# Altium footprint library PCB.PcbLib: 224 footprints (part 3 of 14)
Each footprint in its own frame and in the unit in brackets; x right, y up, seen from the top. Pads: shape width x height; smd on the part's side, far side on the other; paste and mask are expansions set on the pad; w line width, h text height; cw(c..) or ccw(c..) is an arc to the next point about the centre after c.
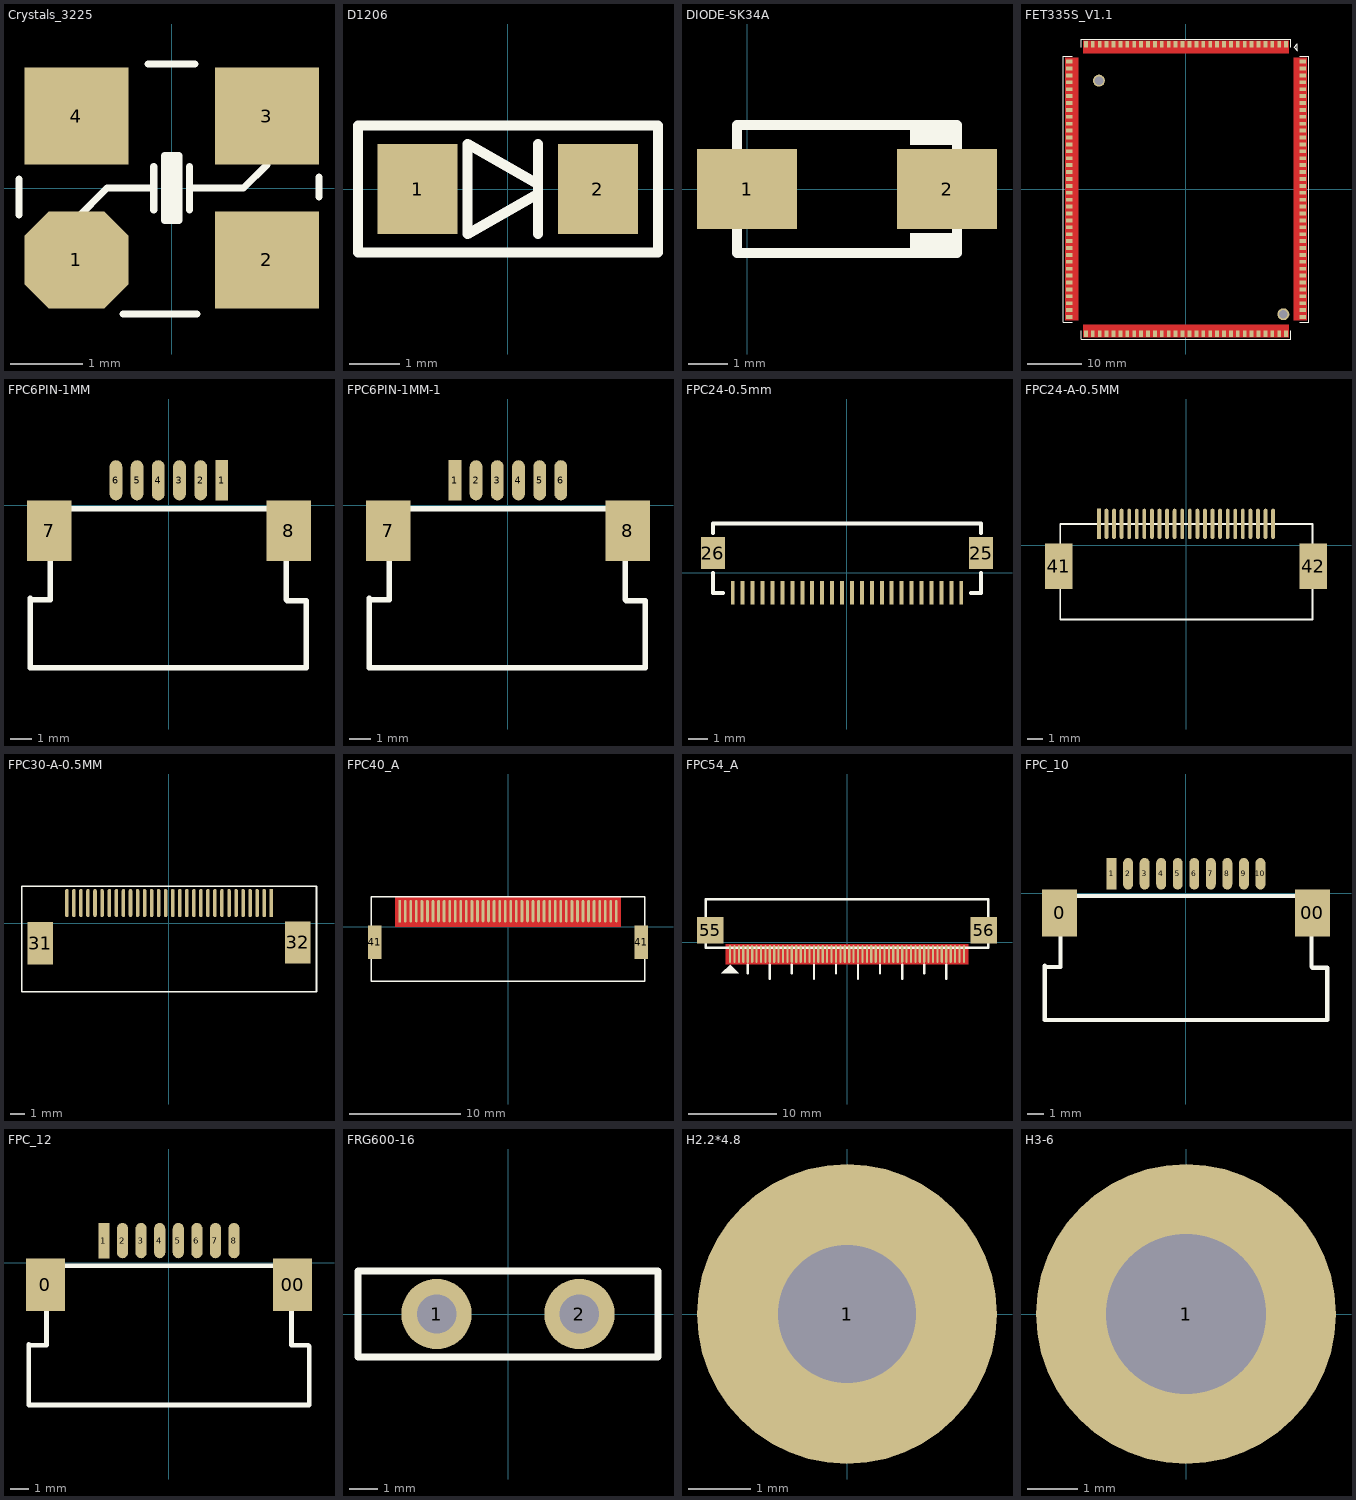
[diagram p2: the footprints below, top view; thin cyan lines are the x and y axes]

## Crystals_3225 [mm]
pads (4):
  oct 1.45x1.35 smd: 1(-1.325,-1)
  rect 1.45x1.35 smd: 2(1.325,-1) 3(1.325,1) 4(-1.325,1)
Top Overlay:
  rectangle: -0.1,-0.45 0.1,0.45
  lines w0.1: -2.125,-0.375 -2.125,0.125 ; -1.325,-0.425 -0.9,0 -0.25,0 ; -0.675,-1.75 0.35,-1.75 ; -0.325,1.725 0.325,1.725 ; -0.25,-0.3 -0.25,0.3 ; 0.25,-0.3 0.25,0.3 ; 0.25,0 1,0 1.325,0.325 ; 2.05,-0.125 2.05,0.15 ; -0.1,-0.45 -0.1,0.45 0.1,0.45 0.1,-0.45 -0.1,-0.45

## D1206 [mm]
height 1.75
pads (2):
  rect 1.6x1.8 smd: 1(-1.8,0) 2(1.8,0)
Top Overlay:
  lines w0.2: 0.6,-0.9 0.6,0.9 ; 0.6,-0.1 -0.8,-0.9 ; 0.6,0.1 -0.8,0.9 ; -0.8,-0.9 -0.8,0.9 ; -0.8,-0.9 -0.8,-0.9 ; -0.8,0.9 -0.8,0.9 ; -2.991,-1.27 3,-1.27 3,1.27 -2.991,1.27 -2.991,-1.27

## DIODE-SK34A [mil]
pads (2):
  rect 100x80 smd: 1(0,0) 2(200,0)
Top Overlay:
  rectangle: 163,-60 210,-44
  rectangle: 163,44 210,60
  lines w10: -10,-63.94 -10,63.94 210,63.94 210,-63.94 -10,-63.94

## FET335S_V1.1 [mm]
pads (138):
  rect 0.7x1.2 smd: 1(18.415,26.6) 2(17.145,26.6) 3(15.875,26.6) 4(14.605,26.6) 5(13.335,26.6) 6(12.065,26.6) 7(10.795,26.6) 8(9.525,26.6) 9(8.255,26.6) 10(6.985,26.6) 11(5.715,26.6) 12(4.445,26.6) 13(3.175,26.6) 14(1.905,26.6) 15(0.635,26.6) 16(-0.635,26.6) 17(-1.905,26.6) 18(-3.175,26.6) 19(-4.445,26.6) 20(-5.715,26.6) 21(-6.985,26.6) 22(-8.255,26.6) 23(-9.525,26.6) 24(-10.795,26.6) 25(-12.065,26.6) 26(-13.335,26.6) 27(-14.605,26.6) 28(-15.875,26.6) 29(-17.145,26.6) 30(-18.415,26.6) 69(-18.415,-26.6) 70(-17.145,-26.6) 71(-15.875,-26.6) 72(-14.605,-26.6) 73(-13.335,-26.6) 74(-12.065,-26.6) 75(-10.795,-26.6) 76(-9.525,-26.6) 77(-8.255,-26.6) 78(-6.985,-26.6) 79(-5.715,-26.6) 80(-4.445,-26.6) 81(-3.175,-26.6) 82(-1.905,-26.6) 83(-0.635,-26.6) 84(0.635,-26.6) 85(1.905,-26.6) 86(3.175,-26.6) 87(4.445,-26.6) 88(5.715,-26.6) 89(6.985,-26.6) 90(8.255,-26.6) 91(9.525,-26.6) 92(10.795,-26.6) 93(12.065,-26.6) 94(13.335,-26.6) 95(14.605,-26.6) 96(15.875,-26.6) 97(17.145,-26.6) 98(18.415,-26.6)
  rect 1.2x0.7 smd: 31(-21.5,23.44) 32(-21.5,22.17) 33(-21.5,20.9) 34(-21.5,19.63) 35(-21.5,18.36) 36(-21.5,17.09) 37(-21.5,15.82) 38(-21.5,14.55) 39(-21.5,13.28) 40(-21.5,12.01) 41(-21.5,10.74) 42(-21.5,9.47) 43(-21.5,8.2) 44(-21.5,6.93) 45(-21.5,5.66) 46(-21.5,4.39) 47(-21.5,3.12) 48(-21.5,1.85) 49(-21.5,0.58) 50(-21.5,-0.69) 51(-21.5,-1.96) 52(-21.5,-3.23) 53(-21.5,-4.5) 54(-21.5,-5.77) 55(-21.5,-7.04) 56(-21.5,-8.31) 57(-21.5,-9.58) 58(-21.5,-10.85) 59(-21.5,-12.12) 60(-21.5,-13.39) 61(-21.5,-14.66) 62(-21.5,-15.93) 63(-21.5,-17.2) 64(-21.5,-18.47) 65(-21.5,-19.74) 66(-21.5,-21.01) 67(-21.5,-22.28) 68(-21.5,-23.55) 99(21.5,-23.55) 100(21.5,-22.28) 101(21.5,-21.01) 102(21.5,-19.74) 103(21.5,-18.47) 104(21.5,-17.2) 105(21.5,-15.93) 106(21.5,-14.66) 107(21.5,-13.39) 108(21.5,-12.12) 109(21.5,-10.85) 110(21.5,-9.58) 111(21.5,-8.31) 112(21.5,-7.04) 113(21.5,-5.77) 114(21.5,-4.5) 115(21.5,-3.23) 116(21.5,-1.96) 117(21.5,-0.69) 118(21.5,0.58) 119(21.5,1.85) 120(21.5,3.12) 121(21.5,4.39) 122(21.5,5.66) 123(21.5,6.93) 124(21.5,8.2) 125(21.5,9.47) 126(21.5,10.74) 127(21.5,12.01) 128(21.5,13.28) 129(21.5,14.55) 130(21.5,15.82) 131(21.5,17.09) 132(21.5,18.36) 133(21.5,19.63) 134(21.5,20.9) 135(21.5,22.17) 136(21.5,23.44)
  round 2.2 hole 1.6: 137(-16.015,19.94) 137(17.915,-23.05)
Top Layer:
  pour cut-out: -18.923,27.305 -18.923,25.019 18.923,25.019 18.923,27.305
  pour cut-out: -18.923,-25.019 -18.923,-27.305 18.923,-27.305 18.923,-25.019
  pour cut-out: 22.225,24.13 19.812,24.13 19.812,-24.13 22.225,-24.13
  pour cut-out: -22.225,24.13 -19.812,24.13 -19.812,-24.13 -22.225,-24.13
Top Overlay:
  lines w0.2: -20.933,-24.5 -22.6,-24.5 -22.6,24.4 -20.933,24.4 ; -19.3,-26.071 -19.3,-27.6 19.3,-27.6 19.3,-26.071 ; -19.3,26.071 -19.3,27.6 19.3,27.6 19.3,26.071 ; 19.9,26.071 20.5,25.471 20.5,26.7 19.9,26.1 ; 20.933,-24.5 22.6,-24.5 22.6,24.4 20.933,24.4

## FPC6PIN-1MM [mm]
pads (8):
  rect 0.6x1.9 smd: 1(2.494,1.188)
  oval 0.6x1.9 smd: 2(1.494,1.188) 3(0.494,1.188) 4(-0.506,1.188) 5(-1.506,1.188) 6(-2.506,1.188)
  rect 2.1x2.85 smd: 7(-5.656,-1.187) 8(5.656,-1.187)
Top Overlay:
  lines w0.254: -6.556,-7.662 -6.556,-4.386 -6.495,-4.447 -5.606,-4.447 -5.606,-0.162 5.53,-0.162 5.53,-4.439 5.591,-4.5 6.48,-4.5 6.48,-7.662 -6.556,-7.662

## FPC6PIN-1MM-1 [mm]
pads (8):
  rect 0.6x1.9 smd: 1(-2.506,1.188)
  oval 0.6x1.9 smd: 2(-1.506,1.188) 3(-0.506,1.188) 4(0.494,1.188) 5(1.494,1.188) 6(2.494,1.188)
  rect 2.1x2.85 smd: 7(-5.656,-1.187) 8(5.656,-1.187)
Top Overlay:
  lines w0.254: -6.556,-7.662 -6.556,-4.386 -6.495,-4.447 -5.606,-4.447 -5.606,-0.162 5.53,-0.162 5.53,-4.439 5.591,-4.5 6.48,-4.5 6.48,-7.662 -6.556,-7.662

## FPC24-0.5mm [mm]
pads (26):
  rect 0.2x1.2 smd: 1(-5.75,-1) 2(-5.25,-1) 3(-4.75,-1) 4(-4.25,-1) 5(-3.75,-1) 6(-3.25,-1) 7(-2.75,-1) 8(-2.25,-1) 9(-1.75,-1) 10(-1.25,-1) 11(-0.75,-1) 12(-0.25,-1) 13(0.25,-1) 14(0.75,-1) 15(1.25,-1) 16(1.75,-1) 17(2.25,-1) 18(2.75,-1) 19(3.25,-1) 20(3.75,-1) 21(4.25,-1) 22(4.75,-1) 23(5.25,-1) 24(5.75,-1)
  rect 1.2x1.6 smd: 25(6.75,1) 26(-6.75,1)
Top Overlay:
  lines w0.2: -6.75,0 -6.75,-1 -6.25,-1 ; -6.75,2 -6.75,2.5 6.75,2.5 6.75,2 ; 6.25,-1 6.75,-1 6.75,0

## FPC24-A-0.5MM [mm]
pads (26):
  rect 0.25x2 smd: 1(-5.75,1.4)
  oval 0.25x2 smd: 2(-5.25,1.4) 3(-4.75,1.4) 4(-4.25,1.4) 5(-3.75,1.4) 6(-3.25,1.4) 7(-2.75,1.4) 8(-2.25,1.4) 9(-1.75,1.4) 10(-1.25,1.4) 11(-0.75,1.4) 12(-0.25,1.4) 13(0.25,1.4) 14(0.75,1.4) 15(1.25,1.4) 16(1.75,1.4) 17(2.25,1.4) 18(2.75,1.4) 19(3.25,1.4) 20(3.75,1.4) 21(4.25,1.4) 22(4.75,1.4) 23(5.25,1.4) 24(5.75,1.4)
  rect 1.8x3 smd: 41(-8.4,-1.4) 42(8.4,-1.4)
Top Overlay:
  lines w0.127: -8.3,-4.9 -8.3,1.4 8.35,1.4 8.35,-4.9 -8.3,-4.9
3D body: height 1.75, standoff 0.25, extent -8.3,-4.9 8.35,1.4

## FPC30-A-0.5MM [mm]
pads (32):
  rect 0.25x2 smd: 1(7.264,1.425)
  oval 0.25x2 smd: 2(6.764,1.425) 3(6.264,1.425) 4(5.764,1.425) 5(5.264,1.425) 6(4.764,1.425) 7(4.264,1.425) 8(3.764,1.425) 9(3.264,1.425) 10(2.764,1.425) 11(2.264,1.425) 12(1.764,1.425) 13(1.264,1.425) 14(0.764,1.425) 15(0.264,1.425) 16(-0.236,1.425) 17(-0.736,1.425) 18(-1.236,1.425) 19(-1.736,1.425) 20(-2.236,1.425) 21(-2.736,1.425) 22(-3.236,1.425) 23(-3.736,1.425) 24(-4.236,1.425) 25(-4.758,1.425) 26(-5.258,1.425) 27(-5.758,1.425) 28(-6.258,1.425) 29(-6.758,1.425) 30(-7.258,1.425)
  rect 1.8x3 smd: 31(-9.158,-1.425) 32(9.158,-1.375)
Top Overlay:
  lines w0.127: -10.465,-4.875 -10.465,2.616 10.49,2.616 10.49,-4.875 -10.465,-4.875

## FPC40_A [mm]
height 0.65
pads (42):
  rect 0.25x2 smd: 1(-9.75,1.4)
  oval 0.25x2 smd: 2(-9.25,1.4) 3(-8.75,1.4) 4(-8.25,1.4) 5(-7.75,1.4) 6(-7.25,1.4) 7(-6.75,1.4) 8(-6.25,1.4) 9(-5.75,1.4) 10(-5.25,1.4) 11(-4.75,1.4) 12(-4.25,1.4) 13(-3.75,1.4) 14(-3.25,1.4) 15(-2.75,1.4) 16(-2.25,1.4) 17(-1.75,1.4) 18(-1.25,1.4) 19(-0.75,1.4) 20(-0.25,1.4) 21(0.25,1.4) 22(0.75,1.4) 23(1.25,1.4) 24(1.75,1.4) 25(2.25,1.4) 26(2.75,1.4) 27(3.25,1.4) 28(3.75,1.4) 29(4.25,1.4) 30(4.75,1.4) 31(5.25,1.4) 32(5.75,1.4) 33(6.25,1.4) 34(6.75,1.4) 35(7.25,1.4) 36(7.75,1.4) 37(8.25,1.4) 38(8.75,1.4) 39(9.25,1.4) 40(9.75,1.4)
  rect 1.2x3 smd: 41(-12,-1.4) 41(12,-1.4)
Top Layer:
  pour cut-out: -10.16,2.692 -10.16,0 10.16,0 10.16,2.692
Top Overlay:
  lines w0.127: -12.3,2.692 -12.3,-4.9 12.3,-4.9 12.3,2.692 ; -12.294,2.692 12.306,2.692

## FPC54_A [mm]
pads (56):
  oval 0.25x2 smd: 1(-13.25,-1.35) 2(-12.75,-1.35) 3(-12.25,-1.35) 4(-11.75,-1.35) 5(-11.25,-1.35) 6(-10.75,-1.35) 7(-10.25,-1.35) 8(-9.75,-1.35) 9(-9.25,-1.35) 10(-8.75,-1.35) 11(-8.25,-1.35) 12(-7.75,-1.35) 13(-7.25,-1.35) 14(-6.75,-1.35) 15(-6.25,-1.35) 16(-5.75,-1.35) 17(-5.25,-1.35) 18(-4.75,-1.35) 19(-4.25,-1.35) 20(-3.75,-1.35) 21(-3.25,-1.35) 22(-2.75,-1.35) 23(-2.25,-1.35) 24(-1.75,-1.35) 25(-1.25,-1.35) 26(-0.75,-1.35) 27(-0.25,-1.35) 28(0.25,-1.35) 29(0.75,-1.35) 30(1.25,-1.35) 31(1.75,-1.35) 32(2.25,-1.35) 33(2.75,-1.35) 34(3.25,-1.35) 35(3.75,-1.35) 36(4.25,-1.35) 37(4.75,-1.35) 38(5.25,-1.35) 39(5.75,-1.35) 40(6.25,-1.35) 41(6.75,-1.35) 42(7.25,-1.35) 43(7.75,-1.35) 44(8.25,-1.35) 45(8.75,-1.35) 46(9.25,-1.35) 47(9.75,-1.35) 48(10.25,-1.35) 49(10.75,-1.35) 50(11.25,-1.35) 51(11.75,-1.35) 52(12.25,-1.35) 53(12.75,-1.35) 54(13.25,-1.35)
  rect 3x3 smd: 55(-15.5,1.35) 56(15.5,1.35)
Top Layer:
  pour cut-out: -13.716,-2.54 -13.716,-0.254 13.716,-0.254 13.716,-2.54
Top Overlay:
  region: -13.259,-2.556 -14.259,-3.556 -12.259,-3.556
  lines w0.25: -11.25,-3.55 -11.25,-2.55 ; -8.75,-4.15 -8.75,-2.55 ; -6.25,-3.55 -6.25,-2.55 ; -3.75,-4.15 -3.75,-2.55 ; -1.25,-3.55 -1.25,-2.55 ; 1.25,-4.15 1.25,-2.55 ; 3.75,-3.55 3.75,-2.55 ; 6.25,-4.15 6.25,-2.55 ; 8.75,-3.55 8.75,-2.55 ; 11.25,-4.15 11.25,-2.55
  lines w0.3: -16,-0.65 16,-0.65 16,4.85 -16,4.85 -16,-0.65
3D body: height 1.75, standoff 0.25, extent -16.002,-1.016 16.002,4.85

## FPC_10 [mm]
pads (12):
  rect 2.1x2.85 smd: 0(-7.65,-1.187) 00(7.65,-1.187)
  rect 0.6x1.9 smd: 1(-4.5,1.188)
  oval 0.6x1.9 smd: 2(-3.5,1.188) 3(-2.5,1.188) 4(-1.5,1.188) 5(-0.5,1.188) 6(0.5,1.188) 7(1.5,1.188) 8(2.5,1.188) 9(3.5,1.188) 10(4.5,1.188)
Top Overlay:
  lines w0.254: -8.55,-7.662 8.55,-7.662 8.55,-4.5 7.661,-4.5 7.6,-4.439 7.6,-0.162 -7.6,-0.162 -7.6,-4.447 -8.489,-4.447 -8.55,-4.386 -8.55,-7.662

## FPC_12 [mm]
pads (10):
  rect 2.1x2.85 smd: 0(-6.65,-1.187) 00(6.65,-1.187)
  rect 0.6x1.9 smd: 1(-3.5,1.188)
  oval 0.6x1.9 smd: 2(-2.5,1.188) 3(-1.5,1.188) 4(-0.5,1.188) 5(0.5,1.188) 6(1.5,1.188) 7(2.5,1.188) 8(3.5,1.188)
Top Overlay:
  lines w0.254: -7.55,-7.662 -7.55,-4.386 -7.489,-4.447 -6.6,-4.447 -6.6,-0.162 6.6,-0.162 6.6,-4.439 7.489,-4.439 7.55,-4.5 7.55,-7.662 -7.55,-7.662

## FRG600-16 [mm]
pads (2):
  round 2.5 hole 1.4: 1(-2.54,0) 2(2.54,0)
Top Overlay:
  lines w0.254: -5.334,-1.524 5.334,-1.524 5.334,1.524 -5.334,1.524 -5.334,0 -5.334,-1.524

## H2.2*4.8 [mm]
pads (1):
  round 4.8 hole 2.2: 1(0,0)

## H3-6 [mm]
pads (1):
  round 6 hole 3.2: 1(0,0)